# EAGLE library part 40PINMEMSBREAKOUT (library CindysStuff)
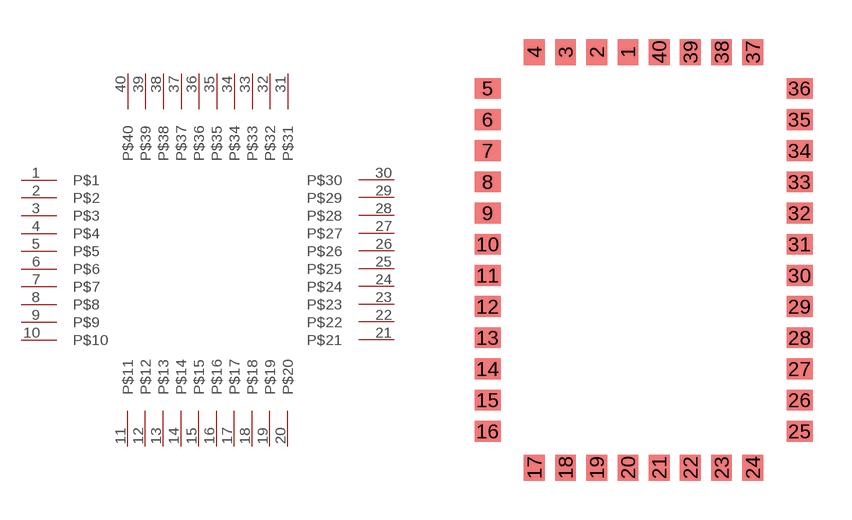
[diagram p0: symbol with the pads of MEMS10BY14MM; footprint MEMS10BY14MM]

Designator prefix -

## 40PINMEMSBREAKOUT  [MEMS10BY14MM]
1  P$1
2  P$2
3  P$3
4  P$4
5  P$5
6  P$6
7  P$7
8  P$8
9  P$9
10  P$10
11  P$11
12  P$12
13  P$13
14  P$14
15  P$15
16  P$16
17  P$17
18  P$18
19  P$19
20  P$20
21  P$21
22  P$22
23  P$23
24  P$24
25  P$25
26  P$26
27  P$27
28  P$28
29  P$29
30  P$30
31  P$31
32  P$32
33  P$33
34  P$34
35  P$35
36  P$36
37  P$37
38  P$38
39  P$39
40  P$40

## Footprint MEMS10BY14MM (pad centres in mm)
smd 0.8 x 1: 1 -0.6,8; 2 -1.8,8; 3 -3,8; 4 -4.2,8; 17 -4.2,-8; 18 -3,-8; 19 -1.8,-8; 20 -0.6,-8; 21 0.6,-8; 22 1.8,-8; 23 3,-8; 24 4.2,-8; 37 4.2,8; 38 3,8; 39 1.8,8; 40 0.6,8
smd 1 x 0.8: 5 -6,6.6; 6 -6,5.4; 7 -6,4.2; 8 -6,3; 9 -6,1.8; 10 -6,0.6; 11 -6,-0.6; 12 -6,-1.8; 13 -6,-3; 14 -6,-4.2; 15 -6,-5.4; 16 -6,-6.6; 25 6,-6.6; 26 6,-5.4; 27 6,-4.2; 28 6,-3; 29 6,-1.8; 30 6,-0.6; 31 6,0.6; 32 6,1.8; 33 6,3; 34 6,4.2; 35 6,5.4; 36 6,6.6